# Altium schematic symbol library CONNECTOR.SchLib: 10 symbols
Pins are listed as number, name and electrical type; pins without a type are passive.

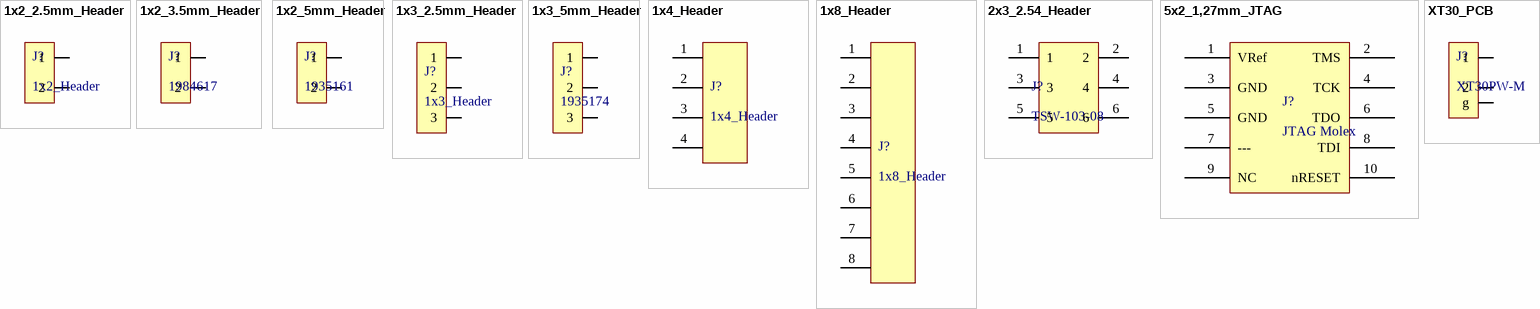
[diagram p0: symbols 1x2_2.5mm_Header to XT30_PCB]

## 1x2_2.5mm_Header
designator J?, comment 1x2_Header
THT 2.54 holes
footprint 1X2_2.5MM_HEADER
pins: 1, 2

## 1x2_3.5mm_Header
designator J?, comment 1984617
Fixed Terminal Blocks PT 1.5/2-3.5H 2POS HRZ 3.5mm SCREW; Manufacturer: Phoenix Contact; Distributor: Mouser; Distributor ID: 651-1984617; Part Number: 1984617
footprint 1X2_3.5MM_HEADER
pins: 1, 2

## 1x2_5mm_Header
designator J?, comment 1935161
Fixed Terminal Blocks PT 1.5/2-5.0-H; Manufacturer: Phoenix Contact; Distributor: Mouser; Distributor ID: 651-1935161; Part Number: 1935161
footprint 1X2_5MM_HEADER
pins: 1, 2

## 1x3_2.5mm_Header
designator J?, comment 1x3_Header
THT 2.54 holes
footprint 1X3_2.5MM_HEADER
pins: 1, 2, 3

## 1x3_5mm_Header
designator J?, comment 1935174
Fixed Terminal Blocks PT 1.5/3-5.0-H; Manufacturer: Phoenix Contact; Distributor: Mouser; Distributor ID: 651-1935174; Part Number: 1935174
footprint 1X3_5MM_HEADER
pins: 1, 2, 3

## 1x4_Header
designator J?
Connector Header Through Hole 4 position 0.100" (2.54mm)
footprint 1X4_HEADER
pins: 1 (power), 2, 3, 4

## 1x8_Header
designator J?
Connector Header Through Hole 8 position 0.100" (2.54mm); Manufacturer: TE Connectivity AMP Connectors; Part Number: 3-644456-8; Distributor 1: Digikey; Distributor 1 ID: A31118-ND; Second Source: *
footprint 1X8_HEADER
pins: 1 (power), 2, 3, 4, 5, 6, 7, 8

## 2x3_2.54_Header
designator J?, comment TSW-103-08
Headers & Wire Housings .100" Terminal Strip; Manufacturer: Samtec; Part Number: TSW-103-08-S-D; Distributor: Mouser; Distributor ID: 200-TSW10308SD
footprint 2x3_2.54MM_HEADER
pins: 1, 2, 3, 4, 5, 6

## 5x2_1,27mm_JTAG
designator J?, comment JTAG Molex
MOLEX for JTAG, 5x2, 1,27 mm
footprint 2X5_JTAG_HEADER
pins: 1 VRef, 2 TMS, 3 GND, 4 TCK, 5 GND, 6 TDO, 7 ---, 8 TDI, 9 NC, 10 nRESET

## XT30_PCB
designator J?, comment XT30PW-M
Gniazdo; zasilające DC; XT30; męskie; PIN: 2; na PCB; THT; 15A; 500V
footprint XT30_PCB
pins: 1, 2, g